# Altium schematic symbol library Diode_LED_Specialty.Schlib: 1 symbol
Pins are listed as number, name and electrical type; pins without a type are passive.

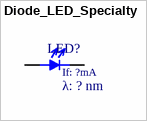
[diagram p0: symbol Diode_LED_Specialty]

## Diode_LED_Specialty
designator LED?  If: ?mA  λ: ? nm
footprint LED_SST-10-UV
footprint LED_SST-10-IR
pins: 1, 2